# Altium schematic symbol library S7CAS_LIB2023.SchLib: 112 symbols (part 1 of 2)
Pins are listed as number, name and electrical type; pins without a type are passive.

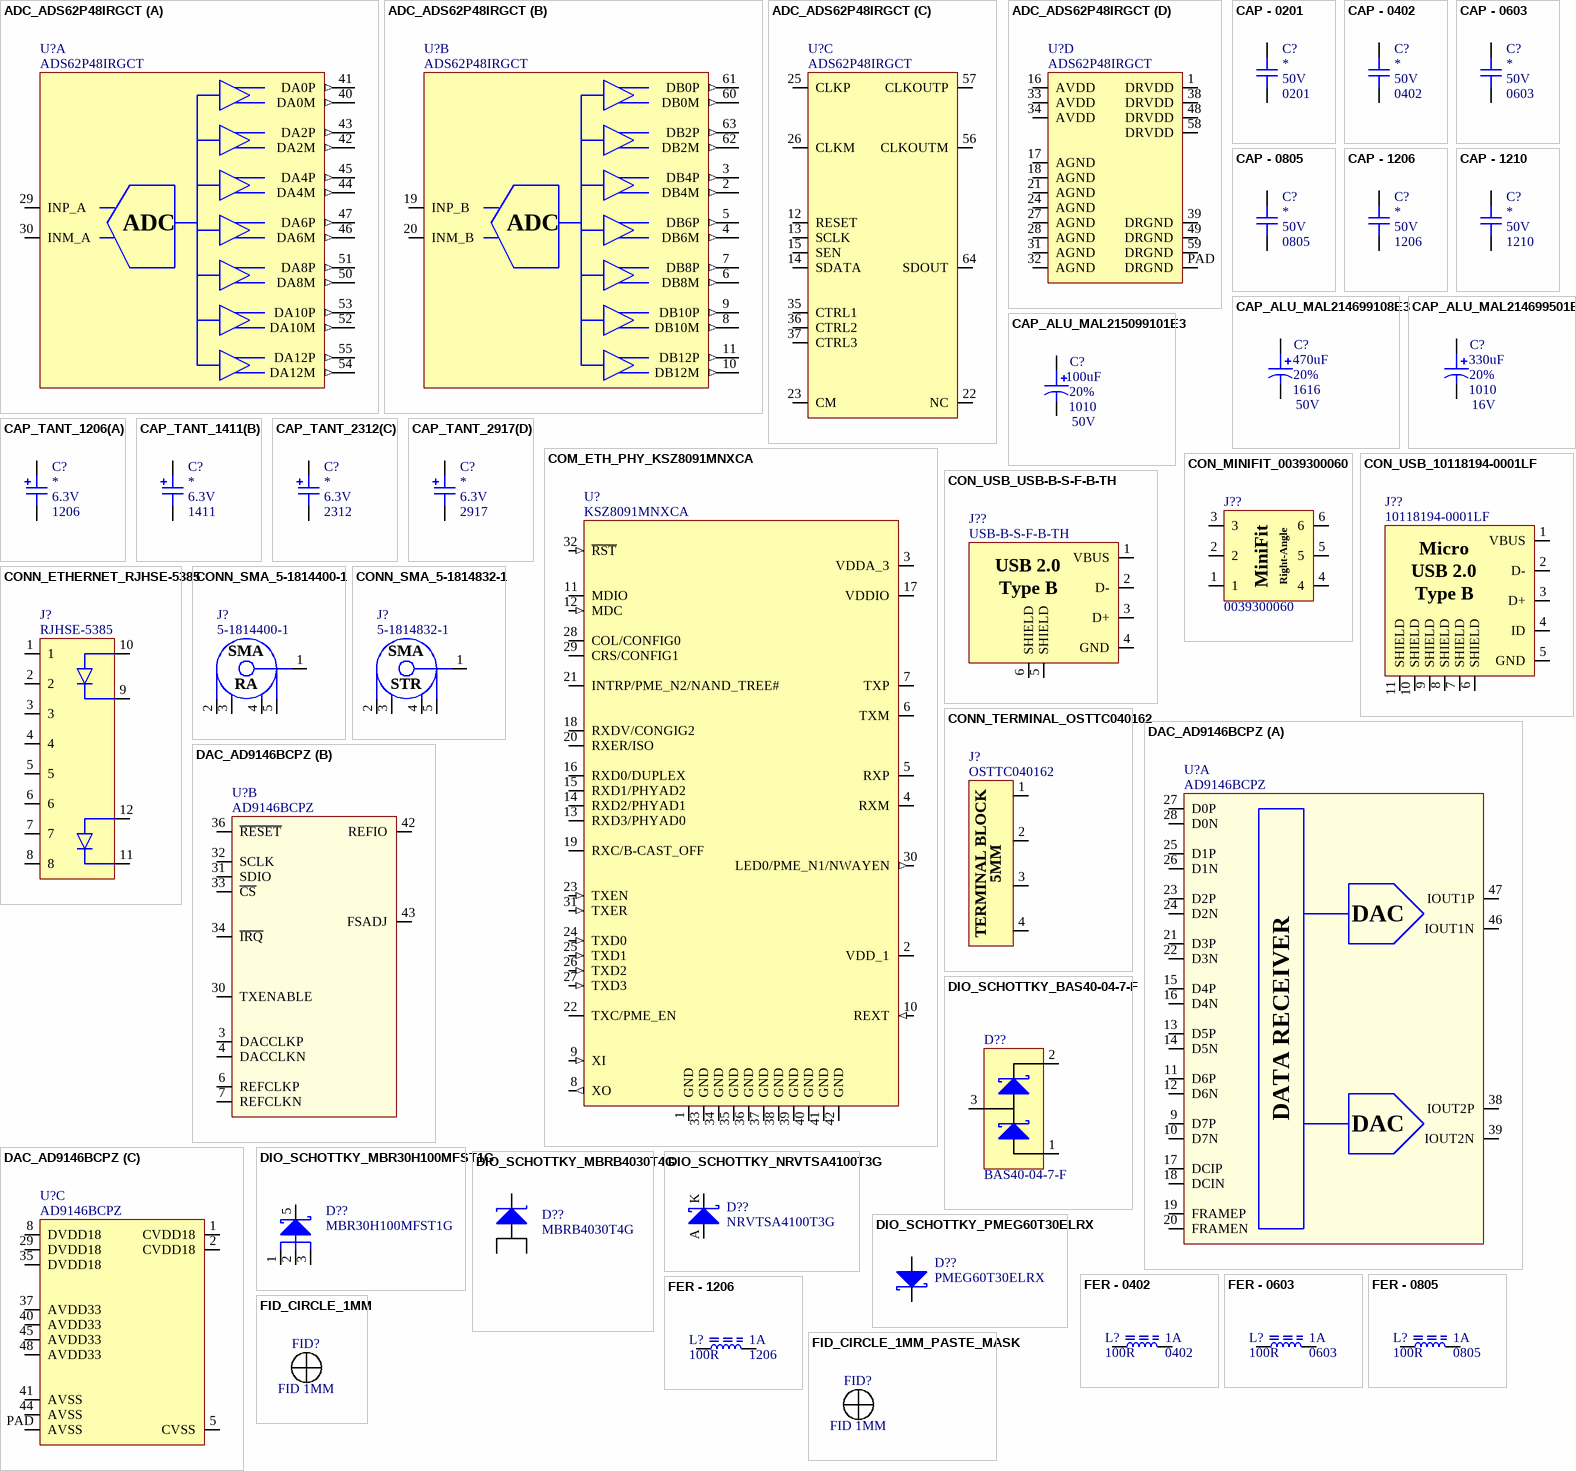
[diagram p0: symbols ADC_ADS62P48IRGCT to FID_CIRCLE_1MM_PASTE_MASK]

## ADC_ADS62P48IRGCT
designator U?, comment ADS62P48IRGCT
ADC - 14 BIT 210MSPS SUAL - VQFN-64; Voltage: 3.15 V ~ 3.6 V / 1.7 V ~ 1.9 V; Mfg: Texas Instruments; Precision: 14 Bit; Current: *; Power: *; Mfg Part Number: ADS62P48IRGCT; HelpURL: http://www.ti.com/lit/ds/symlink/ads62p48.pdf; CreatedBy: Jonathan Bouchard; Temperature: -40°C ~ 85°C; Value: *; Package: VQFN-64; Supplier 1: Digikey; Supplier Part Number 1: 296-24611-1-ND
footprint ADC_ADS62P48IRGCT (QFN, 64-Leads, Body 9,00x9,00mm, Pitch 0,50mm, Thermal Pad 7,40x7,40mm, IPC Medium Density)
part A pins: 29 INP_A, 30 INM_A, 40 DA0M (out), 41 DA0P (out), 42 DA2M (out), 43 DA2P (out), 44 DA4M (out), 45 DA4P (out), 46 DA6M (out), 47 DA6P (out), 50 DA8M (out), 51 DA8P (out), 52 DA10M (out), 53 DA10P (out), 54 DA12M (out), 55 DA12P (out)
part B pins: 2 DB4M (out), 3 DB4P (out), 4 DB6M (out), 5 DB6P (out), 6 DB8M (out), 7 DB8P (out), 8 DB10M (out), 9 DB10P (out), 10 DB12M (out), 11 DB12P (out), 19 INP_B, 20 INM_B, 60 DB0M (out), 61 DB0P (out), 62 DB2M (out), 63 DB2P (out)
part C pins: 12 RESET, 13 SCLK, 14 SDATA, 15 SEN, 22 NC, 23 CM, 25 CLKP, 26 CLKM, 35 CTRL1, 36 CTRL2, 37 CTRL3, 56 CLKOUTM, 57 CLKOUTP, 64 SDOUT
part D pins: 1 DRVDD, 16 AVDD, 17 AGND, 18 AGND, 21 AGND, 24 AGND, 27 AGND, 28 AGND, 31 AGND, 32 AGND, 33 AVDD, 34 AVDD, 38 DRVDD, 39 DRGND, 48 DRVDD, 49 DRGND, 58 DRVDD, 59 DRGND, PAD DRGND
part A text: ADC
part B text: ADC

## CAP - 0201
designator C?  Voltage: 50V  Package: 0201  (hidden comment: CAP - 0201)
Precision: 10%; Current: *; CreatedBy: Jonathan Bouchard; Power: *; Value: *
footprint CAP_0201
pins: 1, 2

## CAP - 0402
designator C?  Voltage: 50V  Package: 0402  (hidden comment: CAP - 0402)
Precision: 10%; Current: *; CreatedBy: Jonathan Bouchard; Power: *; Value: *
footprint CAP_0402
pins: 1, 2

## CAP - 0603
designator C?  Voltage: 50V  Package: 0603  (hidden comment: CAP - 0603)
Precision: 10%; Current: *; CreatedBy: Jonathan Bouchard; Power: *; Value: *
footprint CAP_0603
pins: 1, 2

## CAP - 0805
designator C?  Voltage: 50V  Package: 0805  (hidden comment: CAP - 0805)
Precision: 10%; Current: *; CreatedBy: Jonathan Bouchard; Power: *; Value: *
footprint CAP_0805
pins: 1, 2

## CAP - 1206
designator C?  Voltage: 50V  Package: 1206  (hidden comment: CAP - 1206)
Precision: 10%; Current: *; CreatedBy: Jonathan Bouchard; Power: *; Value: *
footprint CAP_1206
pins: 1, 2

## CAP - 1210
designator C?  Voltage: 50V  Package: 1210  (hidden comment: CAP - 1210)
Precision: 10%; Current: *; CreatedBy: Jonathan Bouchard; Power: *; Value: *
footprint CAP_1210
pins: 1, 2

## CAP_ALU_MAL214699108E3
designator C?, comment value 470uF  Voltage: 50V  Package: 1616  Precision: 20%  (hidden comment: MAL214699108E3)
CAP - ALU 470uF 20% 50V - 1616; Current: 1.3A; Mfg: Vishay Dale; Mfg Part Number: MAL214699108E3; HelpURL: http://www.vishay.com/docs/28403/146cti.pdf; CreatedBy: Jonathan Bouchard; Temperature: -55°C to 125°C; Power: *; Supplier 1: Digikey; Supplier Part Number 1: 4442PHCT-ND
footprint CAP_ALU_1616_vishay
pins: 1, 2

## CAP_ALU_MAL214699501E3
designator C?, comment value 330uF  Voltage: 16V  Package: 1010  Precision: 20%  (hidden comment: MAL214699501E3)
CAP - ALU 330uF 20% 16V - 1010; Current: 750mA; Mfg: Vishay Dale; Mfg Part Number: MAL214699501E3; HelpURL: http://www.vishay.com/docs/28403/146cti.pdf; CreatedBy: Jonathan Bouchard; Temperature: -55°C to 125°C; Power: *; Supplier 1: Digikey; Supplier Part Number 1: 4405PHCT-ND
footprint CAP_ALU_1010_vishay
pins: 1, 2

## CAP_ALU_MAL215099101E3
designator C?, comment value 100uF  Voltage: 50V  Package: 1010  Precision: 20%  (hidden comment: MAL215099101E3)
CAP - ALU 100uF 20% 50V - 1010; Current: 490mA; Mfg: Vishay Dale; Mfg Part Number: MAL215099101E3; HelpURL: http://www.vishay.com/docs/28395/150crz.pdf; CreatedBy: Jonathan Bouchard; Temperature: -55°C to 125°C; Power: *; Supplier 1: Digikey; Supplier Part Number 1: 4399PHDKR-ND
footprint CAP_ALU_1010_vishay
pins: 1, 2

## CAP_TANT_1206(A)
designator C?, comment Voltage: 6.3V  Package: 1206  (hidden comment: CAP - TANTALUM - CASE A)
CAP - TANTALUM - 1206; Precision: 10%; Current: *; CreatedBy: Jonathan Bouchard; Power: *; Value: *
footprint CAP_TAN_1206(A)
pins: 1, 2

## CAP_TANT_1411(B)
designator C?, comment Voltage: 6.3V  Package: 1411  (hidden comment: CAP - TANTALUM - CASE B)
CAP - TANTALUM - 1411; Precision: 10%; Current: *; CreatedBy: Jonathan Bouchard; Power: *; Value: *
footprint CAP_TAN_1411(B)
pins: 1, 2

## CAP_TANT_2312(C)
designator C?, comment Voltage: 6.3V  Package: 2312  (hidden comment: CAP - TANTALUM - CASE C)
CAP - TANTALUM - 2312; Precision: 10%; Current: *; CreatedBy: Jonathan Bouchard; Power: *; Value: *
footprint CAP_TAN_2312(C)
pins: 1, 2

## CAP_TANT_2917(D)
designator C?, comment Voltage: 6.3V  Package: 2917  (hidden comment: CAP - TANTALUM - CASE D)
CAP - TANTALUM - 2917; Precision: 10%; Current: *; CreatedBy: Jonathan Bouchard; Power: *; Value: *
footprint CAP_TAN_2917(D)
pins: 1, 2

## COM_ETH_PHY_KSZ8091MNXCA
designator U?, comment KSZ8091MNXCA
COM - ETHERNET PHY 10/100 - QFN-32; Voltage: 1.8V, 2.5V, 3.3V; Mfg: Micrel; Current: *; Power: *; Mfg Part Number: KSZ8091MNXCA; HelpURL: http://ww1.microchip.com/downloads/en/DeviceDoc/00002275A.pdf; CreatedBy: Jonathan Bouchard; Temperature: 0°C ~ 70°C; Value: *; Precision: *; Package: QFN-32; Supplier 1: Digikey; Supplier Part Number 1: 576-4356-ND
footprint COM_ETH_PHY_KSZ8091MNXCA
pins: 1 GND (power), 2 VDD_1 (power), 3 VDDA_3 (power), 4 RXM (io), 5 RXP (io), 6 TXM (io), 7 TXP (io), 8 XO (out), 9 XI (in), 10 REXT (in), 11 MDIO (io), 12 MDC (in), 13 RXD3/PHYAD0 (io), 14 RXD2/PHYAD1 (io), 15 RXD1/PHYAD2 (io), 16 RXD0/DUPLEX (io), 17 VDDIO (power), 18 RXDV/CONGIG2 (io), 19 RXC/B-CAST_OFF (io), 20 RXER/ISO (io), 21 INTRP/PME_N2/NAND_TREE# (io), 22 TXC/PME_EN (io), 23 TXEN (in), 24 TXD0 (in), 25 TXD1 (in), 26 TXD2 (in), 27 TXD3 (in), 28 COL/CONFIG0 (io), 29 CRS/CONFIG1 (io), 30 LED0/PME_N1/NWAYEN (out), 31 TXER (in), 32 ~{RST} (in), 33 GND (power), 34 GND (power), 35 GND (power), 36 GND (power), 37 GND (power), 38 GND (power), 39 GND (power), 40 GND (power), 41 GND (power), 42 GND (power)

## CON_MINIFIT_0039300060
designator J??, comment 0039300060
CON - Mini-Fit Through Hole, Right Angle 6 position; Manufacturer #1: Molex; Current Rating: 8A; GRAMS Lib Spec: 2.8; Magnetic Material: Unknown; Polarized: Yes; Voltage Rating: 600V; Assembly Type: TH; CreatedBy/Date: Joel Lemay 2018-06-21; HelpURL: https://www.molex.com/pdm_docs/sd/039300060_sd.pdf; Manufacturer #2: *; Package: TH; Part Number #1: 0039300060; Part Number #2: *; Power Max: *; Supplier 1: Digi-Key; Supplier Part Number 1: WM21353-ND; Temperature: - 40°C to + 80°C; Tolerance: *; Value: *; VerifiedBy: Caroline Paulin - 10 sept 2018; Cryo: UNKNOWN
footprint CON_MINIFIT_0039300060
pins: 1, 2, 3, 4, 5, 6
text: MiniFit; Right-Angle

## CON_USB_10118194-0001LF
designator J??, comment 10118194-0001LF
CON - USB MICRO B RECPT SMT R/A - 4PIN; Manufacturer #1: Amphenol FCI; Value: USB - Micro B; Voltage Rating: 100VAC; Current Rating: 1.8A; GRAMS Lib Spec: 2.8; Magnetic Material: YES; Cryo: UNKNOWN; Tolerance: *; Power Max: *; HelpURL: https://cdn.amphenol-icc.com/media/wysiwyg/files/drawing/10118194.pdf; CreatedBy/Date: Arnaud Samson - 09/07/18; VerifiedBy: Jonathan Bouchard 2018-07-12; Temperature: -30°C ~ 80°C; Package: 5-SMD; Manufacturer #2: *; Note: *; Assembly Type: SMD; Part Number #2: *; Part Number #1: 10118194-0001LF; Polarized: YES; Supplier 1: Digi-Key; Supplier Part Number 1: 609-4618-1-ND
footprint CON_USB_10118194-0001LF (CONN USB MICRO B RECPT SMT R/A)
pins: 1 VBUS, 2 D-, 3 D+, 4 ID, 5 GND, 6 SHIELD, 7 SHIELD, 8 SHIELD, 9 SHIELD, 10 SHIELD, 11 SHIELD
text: Micro; USB 2.0; Type B

## CON_USB_USB-B-S-F-B-TH
designator J??, comment USB-B-S-F-B-TH
CON - USB B RECPT TH R/A - 4-TH; Manufacturer #1: Samtec Inc.; Value: USB B; Voltage Rating: 30VAC; GRAMS Lib Spec: 2.8c; Magnetic Material: UNKNOWN; Polarized: YES; Tolerance: *; Current Rating: *; Power Max: *; HelpURL: http://suddendocs.samtec.com/catalog_english/usb_b.pdf; CreatedBy/Date: Jonathan Bouchard 2020-03-24; VerifiedBy: C.Paulin - 22/04/2020; Temperature: -50°C ~ 85°C; Package: 4-TH; Manufacturer #2: *; Note: *; Assembly Type: TH; Part Number #2: *; Part Number #1: USB-B-S-F-B-TH; Supplier 1: Digi-Key; Supplier Part Number 1: SAM10867-ND; Cryo: UNKNOWN
footprint CON_USB_USB-B-S-F-B-TH (Samtec USB B)
pins: 1 VBUS, 2 D-, 3 D+, 4 GND, 5 SHIELD, 6 SHIELD
text: USB 2.0; Type B

## CONN_ETHERNET_RJHSE-5385
designator J?, comment RJHSE-5385
CONN - MOD JACK RJ45 R/A ETHERNET - TH; Mfg: Amphenol; Voltage: *; Current: *; Power: *; Mfg Part Number: RJHSE-5385; HelpURL: https://www.amphenolcanada.com/ProductSearch/drawings/AC/RJHSE538X.pdf; CreatedBy: Jonathan Bouchard; Temperature: -55°C ~ 85°C; Value: *; Precision: *; Package: TH-12; Supplier 1: Digikey; Supplier Part Number 1: RJHSE-5385-ND
footprint CONN_ETHERNET_RJHSE-5385 (Ethernet connector with LEDs)
pins: 1, 2, 3, 4, 5, 6, 7, 8, 9 LED1_K, 10 LED1_A, 11 LED2_K, 12 LED2_A

## CONN_SMA_5-1814400-1
designator J?, comment 5-1814400-1
CONN -  SMA JACK R/A 50 OHM - TH; Mfg: TE Connectivity AMP Connectors; Voltage: *; Current: *; Power: *; Mfg Part Number: 5-1814400-1; HelpURL: http://www.te.com/commerce/DocumentDelivery/DDEController?Action=srchrtrv&DocNm=1814400&DocType=Customer+Drawing&DocLang=English; CreatedBy: Jonathan Bouchard; Temperature: -55°C ~ 85°C; Value: *; Precision: *; Package: TH-5; Supplier 1: Digikey; Supplier Part Number 1: A97593-ND
footprint CONN_SMA_5-1814400-1 (SMA Right Angle Jack, 14.8x6.35x9.6mm)
pins: 1, 2, 3, 4, 5
text: SMA; RA

## CONN_SMA_5-1814832-1
designator J?, comment 5-1814832-1
CONN -  SMA JACK STR 50 OHM - TH; Mfg: TE Connectivity AMP Connectors; Voltage: *; Current: *; Power: *; Mfg Part Number: 5-1814832-1; HelpURL: http://www.te.com/commerce/DocumentDelivery/DDEController?Action=srchrtrv&DocNm=1814832&DocType=Customer+Drawing&DocLang=English; CreatedBy: Jonathan Bouchard; Temperature: -65°C ~ 165°C; Value: *; Precision: *; Package: TH-5; Supplier 1: Digikey; Supplier Part Number 1: A97594-ND
footprint CONN_SMA_5-1814832-1 (SMA Straight Jack, 6.35x6.35x9.5mm)
pins: 1, 2, 3, 4, 5
text: SMA; STR

## CONN_TERMINAL_OSTTC040162
designator J?, comment OSTTC040162
CONN -  TERMINAL BLOCK 4POS 5MM - TH; Mfg: On Shore Technology Inc.; Voltage: *; Current: *; Power: *; Mfg Part Number: OSTTC040162; HelpURL: http://www.on-shore.com/wp-content/uploads/2015/09/osttcxx0162.pdf; CreatedBy: Jonathan Bouchard; Temperature: -30°C ~ 105°C; Value: *; Precision: *; Package: TH-4; Supplier 1: Digikey; Supplier Part Number 1: ED2602-ND
footprint CONN_TERMINAL_OSTTA040161 (4-pins terminal block)
pins: 1, 2, 3, 4
text: TERMINAL BLOCK; 5MM

## DAC_AD9146BCPZ
designator U?, comment AD9146BCPZ
DAC - 16BIT SRL HIGH SPEED - QFN-48; Voltage: 3.13 V ~ 3.47 V / 1.71 V ~ 1.89 V; Mfg: Analog Devices Inc.; Current: *; Power: *; Mfg Part Number: AD9146BCPZ; HelpURL: http://www.analog.com/media/en/technical-documentation/data-sheets/AD9146.PDF; CreatedBy: Jonathan Bouchard; Temperature: -40°C ~ 85°C; Value: *; Precision: 16 Bit; Package: QFN-48; Supplier 1: Digikey; Supplier Part Number 1: AD9146BCPZ-ND
footprint DAC_AD9146BCPZ (QFN, 48-Leads, Body 7x7mm, Pitch 0.5mm, Thermal Pad 5.6x5.6mm, IPC Medium Density)
part A pins: 9 D7P "Data Bit 7 (MSB), Positive.", 10 D7N "Data Bit 7 (MSB), Negative.", 11 D6P "Data Bit 6, Positive.", 12 D6N "Data Bit 6, Negative.", 13 D5P "Data Bit 5, Positive.", 14 D5N "Data Bit 5, Negative.", 15 D4P "Data Bit 4, Positive.", 16 D4N "Data Bit 4, Negative.", 17 DCIP "Data Clock Input, Positive.", 18 DCIN "Data Clock Input, Negative.", 19 FRAMEP "Frame Input, Positive.", 20 FRAMEN "Frame Input, Negative.", 21 D3P "Data Bit 3, Positive.", 22 D3N "Data Bit 3, Negative.", 23 D2P "Data Bit 2, Positive.", 24 D2N "Data Bit 2, Negative.", 25 D1P "Data Bit 1, Positive.", 26 D1N "Data Bit 1, Negative.", 27 D0P "Data Bit 0 (LSB), Positive.", 28 D0N "Data Bit 0 (LSB), Negative.", 38 IOUT2P "Q DAC Positive Current Output.", 39 IOUT2N "Q DAC Negative Current Output.", 46 IOUT1N "I DAC Negative Current Output.", 47 IOUT1P "I DAC Positive Current Output."
part B pins: 3 DACCLKP "DAC Clock Input, Positive.", 4 DACCLKN "DAC Clock Input, Negative.", 6 REFCLKP "PLL Reference Clock Input, Positive. This pin has a secondary function as a synchronization input.", 7 REFCLKN "PLL Reference Clock Input, Negative. This pin has a secondary function as a synchronization input.", 30 TXENABLE "Active High Transmit Path Enable (CMOS). A low level on this pin clamps the DAC outputs to midscale.", 31 SDIO "Serial Port Data Input/Output (CMOS).", 32 SCLK "Serial Port Clock Input (CMOS).", 33 ~{CS} "Serial Port Chip Select, Active Low (CMOS).", 34 ~{IRQ} "Interrupt Request. Open-drain, active low output. Pull this pin high external to the device.", 36 ~{RESET} "Reset, Active Low (CMOS).", 42 REFIO "1.2 V Band Gap Voltage Reference Output. Should be decoupled to AVSS with a 0.1 uF capacitor.", 43 FSADJ "Full-Scale Current Output Adjust. Place a 10 kO resistor from this pin to AVSS."
part C pins: 1 CVDD18 "1.8 V Clock Supply. Supplies clock receivers, clock distribution, and PLL circuitry.", 2 CVDD18 "1.8 V Clock Supply. Supplies clock receivers, clock distribution, and PLL circuitry.", 5 CVSS "Clock Supply Common.", 8 DVDD18 "1.8 V Digital Supply. Supplies power to digital core and digital data ports.", 29 DVDD18 "1.8 V Digital Supply. Supplies power to digital core and digital data ports.", 35 DVDD18 "1.8 V Digital Supply. Supplies power to digital core and digital data ports.", 37 AVDD33 "3.3 V Analog Supply.", 40 AVDD33 "3.3 V Analog Supply.", 41 AVSS "Analog Supply Common.", 44 AVSS "Analog Supply Common.", 45 AVDD33 "3.3 V Analog Supply.", 48 AVDD33 "3.3 V Analog Supply.", PAD AVSS "The exposed pad (EPAD) must be soldered to the ground plane (AVSS). The EPAD provides an electrical,thermal, and mechanical connection to the board."
part A text: DAC; DATA RECEIVER

## DIO_SCHOTTKY_BAS40-04-7-F
designator D??, comment BAS40-04-7-F
DIO - Schottky Array 1 Pair Series Connection - SOT-23-3; Manufacturer #1: Diodes Incorporated; Voltage Rating: 40V dc reverse; Current Rating: 200mA; GRAMS Lib Spec: 2.8; Magnetic Material: Unknown; Polarized: Yes; Value: -; Tolerance: -; Power Max: -; HelpURL: https://www.diodes.com/assets/Datasheets/ds11006.pdf; CreatedBy/Date: Danae D-F 15 août 2019; VerifiedBy: C.Paulin - 16/08/2019; Temperature: -55°C ~ 125°C; Package: SOT-23-3; Manufacturer #2: -; Assembly Type: SMD; Part Number #2: -; Part Number #1: BAS40-04-7-F; Supplier 1: Digi-Key; Supplier Part Number 1: BAS40-04FDITR-ND; Cryo: UNKNOWN
footprint DIO_SCHOTTKY_BAS40-04-7-F
pins: 1 A, 2 K, 3 AK

## DIO_SCHOTTKY_MBR30H100MFST1G
designator D??, comment MBR30H100MFST1G
DIO - SCHOTTKY 100V 30A - 5DFN; Manufacturer #1: ON Semiconductor; GRAMS Lib Spec: 2.8; Magnetic Material: Unknown; Polarized: Yes; Assembly Type: SMD; CreatedBy/Date: Joel Lemay 2019-10-17; Current Rating: 30A; HelpURL: http://www.onsemi.com/pub/Collateral/MBR30H100MFS-D.PDF; Manufacturer #2: *; Package: 5DFN; Part Number #1: MBR30H100MFST1G; Part Number #2: *; Power Max: *; Supplier 1: Digi-Key; Supplier Part Number 1: MBR30H100MFST1GOSCT-ND; Temperature: -55°C ~ 175°C; Tolerance: *; VerifiedBy: C.Paulin - 2019-11-18; Voltage Rating: 100V; Cryo: UNKNOWN
footprint DIO_SCHOTTKY_MBR30H100MFST1G
pins: 1 A, 2 A, 3 A, 4 NC hidden, 5 K

## DIO_SCHOTTKY_MBRB4030T4G
designator D??, comment MBRB4030T4G
DIO - 30V MAX 40 A - TO-263-3; Manufacturer #1: ON Semiconductor; Value: Vf = 550mV @ 40A; Current Rating: 40A; GRAMS Lib Spec: 2.8; Magnetic Material: NO; Polarized: Yes; Cryo: UNKNOWN; Tolerance: *; Voltage Rating: 30V; Power Max: *; HelpURL: http://www.onsemi.com/pub/Collateral/MBRB4030-D.PDF; CreatedBy/Date: Arnaud Samson - 06/07/18; VerifiedBy: Jonathan Bouchard 2018-07-12; Temperature: -65°C ~ 175°C; Package: D2PAK; Manufacturer #2: *; Note: *; Assembly Type: SMD; Part Number #2: *; Part Number #1: MBRB4030T4G; Supplier 1: Digi-Key; Supplier Part Number 1: MBRB4030T4GOSCT-ND
footprint DIO_SCHOTTKY_MBRB4030T4G (TO-263-3, D²Pak (2 Leads + Tab), TO-263AB)
pins: 1 A, 3, 4

## DIO_SCHOTTKY_NRVTSA4100T3G
designator D??, comment NRVTSA4100T3G
DIO -  SCHOTTKY 100V 4A - DO-214AC; Manufacturer #1: ON Semiconductor; Value: Vf = 660mV @ 4A; GRAMS Lib Spec: 2.8; Magnetic Material: UNKNOWN; Polarized: YES; Tolerance: *; Voltage Rating: 100V; Current Rating: 4A; Power Max: *; HelpURL: https://www.onsemi.com/pub/Collateral/NTSA4100-D.PDF; CreatedBy/Date: Jonathan Bouchard 2019-03-22; VerifiedBy: Nicolas V. (2019-05-01); Temperature: -55°C ~ 150°C; Package: DO-214AC; Manufacturer #2: *; Note: *; Assembly Type: SMD; Part Number #2: *; Part Number #1: NRVTSA4100T3G; Supplier 1: Digi-Key; Supplier Part Number 1: NRVTSA4100T3GOSCT-ND; Cryo: UNKNOWN
footprint DIO_SCHOTTKY_NRVTSA4100T3G (Molded Diode, 2-Leads, Body 4,31x2,61mm, IPC Medium Density)
pins: A, K

## DIO_SCHOTTKY_PMEG60T30ELRX
designator D??, comment PMEG60T30ELRX
DIO -  SCHOTTKY 60V 3A - SOD-123W; Manufacturer #1: Nexperia USA Inc.; GRAMS Lib Spec: 2.8c; Magnetic Material: UNKNOWN; Polarized: YES; Value: 620mV @ 3A; Assembly Type: SMD; CreatedBy/Date: Jonathan Bouchard 2020-03-23; Current Rating: 3A; HelpURL: https://assets.nexperia.com/documents/data-sheet/PMEG60T30ELR.pdf; Manufacturer #2: *; Note: *; Package: SOD-123W; Part Number #1: PMEG60T30ELRX; Part Number #2: *; Power Max: *; Supplier 1: Digi-Key; Supplier Part Number 1: 1727-7806-1-ND; Temperature: 175°C (Max); Tolerance: *; VerifiedBy: C.Paulin - 22/04/2020; Voltage Rating: 60V; Cryo: UNKNOWN
footprint DIO_SCHOTTKY_PMEG60T30ELRX
pins: A, K

## FER - 0402
designator L?  value 100R  Current: 1A  Package: 0402  (hidden comment: FER - 0402)
Voltage: *; CreatedBy: Jonathan Bouchard; Power: *; Precision: *
footprint FER_0402
pins: 1, 2

## FER - 0603
designator L?  value 100R  Current: 1A  Package: 0603  (hidden comment: FER - 0603)
Voltage: *; CreatedBy: Jonathan Bouchard; Power: *; Precision: *
footprint FER_0603
pins: 1, 2

## FER - 0805
designator L?  value 100R  Current: 1A  Package: 0805  (hidden comment: FER - 0805)
Voltage: *; CreatedBy: Jonathan Bouchard; Power: *; Precision: *
footprint FER_0805
pins: 1, 2

## FER - 1206
designator L?  value 100R  Current: 1A  Package: 1206  (hidden comment: FER - 1206)
Voltage: *; CreatedBy: Jonathan Bouchard; Power: *; Precision: *
footprint FER_1206
pins: 1, 2

## FID_CIRCLE_1MM
designator FID?, comment FID 1MM
FID - FIDUCIAL 1MM CIRCLE DOUBLE-SIDED - 1MM; GRAMS Lib Spec: 2.8; Magnetic Material: NO; Cryo: UNKNOWN; Value: *; Tolerance: *; Voltage Rating: *; Current Rating: *; Power Max: *; HelpURL: https://www.pcb-3d.com/wordpress/wp-content/uploads/ipc-sm-782a_amendment_1_and_2.pdf; CreatedBy/Date: Jonathan Bouchard 2018-07-23; VerifiedBy: Caroline Paulin - 25 juillet 2018; Temperature: *; Package: 1MM CIRCLE; Manufacturer #1: *; Manufacturer #2: *; Note: *; Assembly Type: NONE; Part Number #2: *; Part Number #1: *; Polarized: *; Supplier 1: *; Supplier Part Number 1: *
footprint FID_CIRCLE_1MM
pins: 1 hidden, 2 hidden

## FID_CIRCLE_1MM_PASTE_MASK
designator FID?, comment FID 1MM
FID - FIDUCIAL 1MM CIRCLE DOUBLE-SIDED - 1MM; GRAMS Lib Spec: 2.8; Magnetic Material: NO; Cryo: UNKNOWN; Value: *; Tolerance: *; Voltage Rating: *; Current Rating: *; Power Max: *; HelpURL: https://www.pcb-3d.com/wordpress/wp-content/uploads/ipc-sm-782a_amendment_1_and_2.pdf; CreatedBy/Date: Jonathan Bouchard 2018-07-23; VerifiedBy: Caroline Paulin - 25 juillet 2018; Temperature: *; Package: 1MM CIRCLE; Manufacturer #1: *; Manufacturer #2: *; Note: *; Assembly Type: NONE; Part Number #2: *; Part Number #1: *; Polarized: *; Supplier 1: *; Supplier Part Number 1: *
footprint FID_CIRCLE_1MM - PASTE_MASK
pins: 1 hidden, 2 hidden

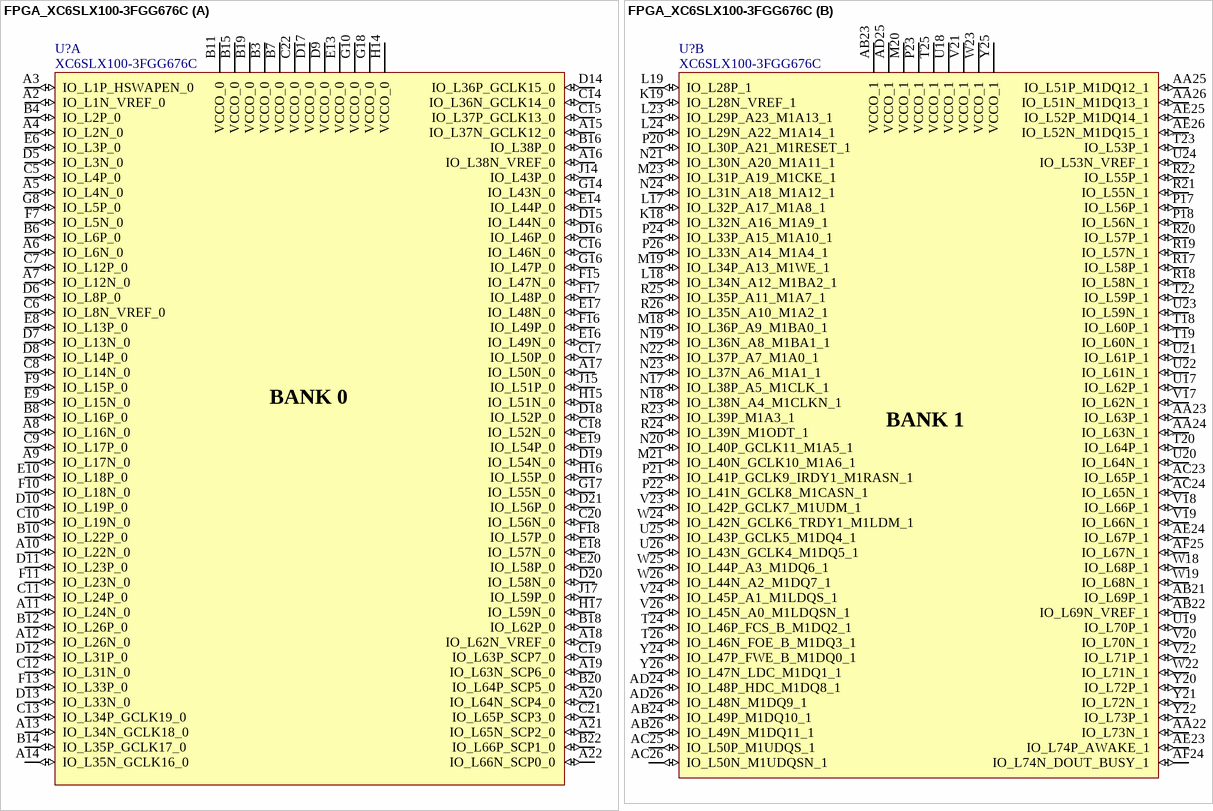
[diagram p1: symbol FPGA_XC6SLX100-3FGG676C]

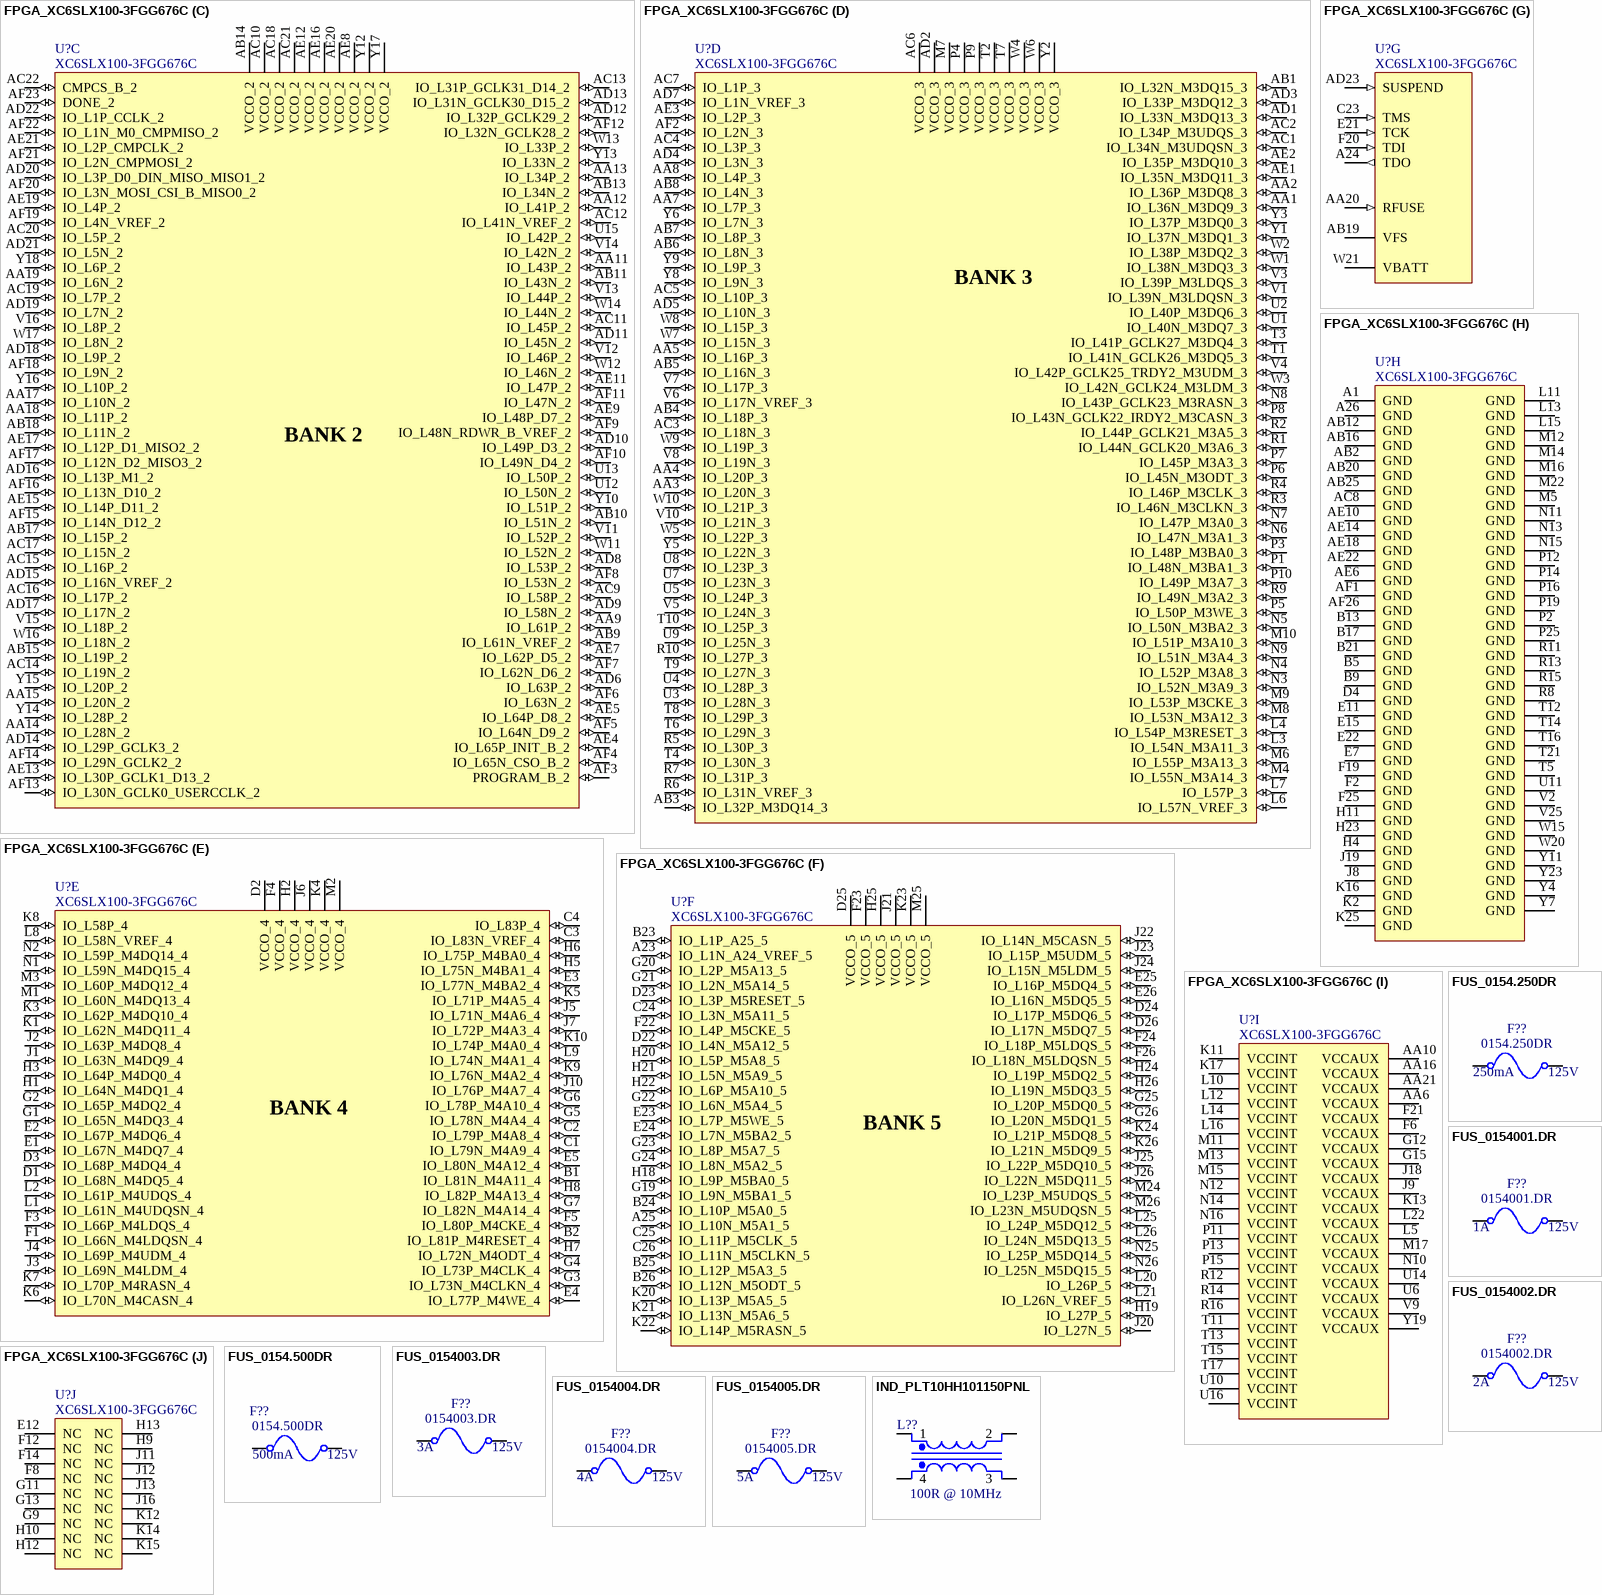
[diagram p2: symbols FPGA_XC6SLX100-3FGG676C to IND_PLT10HH101150PNL]

## FPGA_XC6SLX100-3FGG676C
designator U?, comment XC6SLX100-3FGG676C
FPGA - XILINX SPARTAN 6 480 I/O - BGA-676; Voltage: 1.14 V ~ 1.26 V; Current: *; Power: *; Mfg: Xilinx; Mfg Part Number: XC6SLX100-3FGG676C; HelpURL: https://www.xilinx.com/support/documentation/data_sheets/ds162.pdf; CreatedBy: Jonathan Bouchard; Temperature: 0°C ~ 85°C (TJ); Value: *; Precision: *; Package: BGA-676; Supplier 1: Digikey; Supplier Part Number 1: 122-1760-ND
footprint FPGA_XILINX_FGG676
part A pins: A2 IO_L1N_VREF_0 (io), A3 IO_L1P_HSWAPEN_0 (io), A4 IO_L2N_0 (io), A5 IO_L4N_0 (io), A6 IO_L6N_0 (io), A7 IO_L12N_0 (io), A8 IO_L16N_0 (io), A9 IO_L17N_0 (io), A10 IO_L22N_0 (io), A11 IO_L24N_0 (io), A12 IO_L26N_0 (io), A13 IO_L34N_GCLK18_0 (io), A14 IO_L35N_GCLK16_0 (io), A15 IO_L37N_GCLK12_0 (io), A16 IO_L38N_VREF_0 (io), A17 IO_L50N_0 (io), A18 IO_L62N_VREF_0 (io), A19 IO_L63N_SCP6_0 (io), A20 IO_L64N_SCP4_0 (io), A21 IO_L65N_SCP2_0 (io), A22 IO_L66N_SCP0_0 (io), B3 VCCO_0 (power), B4 IO_L2P_0 (io), B6 IO_L6P_0 (io), B7 VCCO_0 (power), B8 IO_L16P_0 (io), B10 IO_L22P_0 (io), B11 VCCO_0 (power), B12 IO_L26P_0 (io), B14 IO_L35P_GCLK17_0 (io), B15 VCCO_0 (power), B16 IO_L38P_0 (io), B18 IO_L62P_0 (io), B19 VCCO_0 (power), B20 IO_L64P_SCP5_0 (io), B22 IO_L66P_SCP1_0 (io), C5 IO_L4P_0 (io), C6 IO_L8N_VREF_0 (io), C7 IO_L12P_0 (io), C8 IO_L14N_0 (io), C9 IO_L17P_0 (io), C10 IO_L19N_0 (io), C11 IO_L24P_0 (io), C12 IO_L31N_0 (io), C13 IO_L34P_GCLK19_0 (io), C14 IO_L36N_GCLK14_0 (io), C15 IO_L37P_GCLK13_0 (io), C16 IO_L46N_0 (io), C17 IO_L50P_0 (io), C18 IO_L52N_0 (io), C19 IO_L63P_SCP7_0 (io), C20 IO_L56N_0 (io), C21 IO_L65P_SCP3_0 (io), C22 VCCO_0 (power), D5 IO_L3N_0 (io), D6 IO_L8P_0 (io), D7 IO_L13N_0 (io), D8 IO_L14P_0 (io), D9 VCCO_0 (power), D10 IO_L19P_0 (io), D11 IO_L23P_0 (io), D12 IO_L31P_0 (io), D13 IO_L33N_0 (io), D14 IO_L36P_GCLK15_0 (io), D15 IO_L44N_0 (io), D16 IO_L46P_0 (io), D17 VCCO_0 (power), D18 IO_L52P_0 (io), D19 IO_L54N_0 (io), D20 IO_L58N_0 (io), D21 IO_L56P_0 (io), E6 IO_L3P_0 (io), E8 IO_L13P_0 (io), E9 IO_L15N_0 (io), E10 IO_L18P_0 (io), E13 VCCO_0 (power), E14 IO_L44P_0 (io), E16 IO_L49N_0 (io), E17 IO_L48N_0 (io), E18 IO_L57N_0 (io), E19 IO_L54P_0 (io), E20 IO_L58P_0 (io), F7 IO_L5N_0 (io), F9 IO_L15P_0 (io), F10 IO_L18N_0 (io), F11 IO_L23N_0 (io), F13 IO_L33P_0 (io), F15 IO_L47N_0 (io), F16 IO_L49P_0 (io), F17 IO_L48P_0 (io), F18 IO_L57P_0 (io), G8 IO_L5P_0 (io), G10 VCCO_0 (power), G14 IO_L43N_0 (io), G16 IO_L47P_0 (io), G17 IO_L55N_0 (io), G18 VCCO_0 (power), H14 VCCO_0 (power), H15 IO_L51N_0 (io), H16 IO_L55P_0 (io), H17 IO_L59N_0 (io), J14 IO_L43P_0 (io), J15 IO_L51P_0 (io), J17 IO_L59P_0 (io)
part B pins: AA22 IO_L73N_1 (io), AA23 IO_L63P_1 (io), AA24 IO_L63N_1 (io), AA25 IO_L51P_M1DQ12_1 (io), AA26 IO_L51N_M1DQ13_1 (io), AB21 IO_L69P_1 (io), AB22 IO_L69N_VREF_1 (io), AB23 VCCO_1 (power), AB24 IO_L49P_M1DQ10_1 (io), AB26 IO_L49N_M1DQ11_1 (io), AC23 IO_L65P_1 (io), AC24 IO_L65N_1 (io), AC25 IO_L50P_M1UDQS_1 (io), AC26 IO_L50N_M1UDQSN_1 (io), AD24 IO_L48P_HDC_M1DQ8_1 (io), AD25 VCCO_1 (power), AD26 IO_L48N_M1DQ9_1 (io), AE23 IO_L74P_AWAKE_1 (io), AE24 IO_L67P_1 (io), AE25 IO_L52P_M1DQ14_1 (io), AE26 IO_L52N_M1DQ15_1 (io), AF24 IO_L74N_DOUT_BUSY_1 (io), AF25 IO_L67N_1 (io), K18 IO_L32N_A16_M1A9_1 (io), K19 IO_L28N_VREF_1 (io), L17 IO_L32P_A17_M1A8_1 (io), L18 IO_L34N_A12_M1BA2_1 (io), L19 IO_L28P_1 (io), L23 IO_L29P_A23_M1A13_1 (io), L24 IO_L29N_A22_M1A14_1 (io), M18 IO_L36P_A9_M1BA0_1 (io), M19 IO_L34P_A13_M1WE_1 (io), M20 VCCO_1 (power), M21 IO_L40N_GCLK10_M1A6_1 (io), M23 IO_L31P_A19_M1CKE_1 (io), N17 IO_L38P_A5_M1CLK_1 (io), N18 IO_L38N_A4_M1CLKN_1 (io), N19 IO_L36N_A8_M1BA1_1 (io), N20 IO_L40P_GCLK11_M1A5_1 (io), N21 IO_L30N_A20_M1A11_1 (io), N22 IO_L37P_A7_M1A0_1 (io), N23 IO_L37N_A6_M1A1_1 (io), N24 IO_L31N_A18_M1A12_1 (io), P17 IO_L56P_1 (io), P18 IO_L56N_1 (io), P20 IO_L30P_A21_M1RESET_1 (io), P21 IO_L41P_GCLK9_IRDY1_M1RASN_1 (io), P22 IO_L41N_GCLK8_M1CASN_1 (io), P23 VCCO_1 (power), P24 IO_L33P_A15_M1A10_1 (io), P26 IO_L33N_A14_M1A4_1 (io), R17 IO_L58P_1 (io), R18 IO_L58N_1 (io), R19 IO_L57N_1 (io), R20 IO_L57P_1 (io), R21 IO_L55N_1 (io), R22 IO_L55P_1 (io), R23 IO_L39P_M1A3_1 (io), R24 IO_L39N_M1ODT_1 (io), R25 IO_L35P_A11_M1A7_1 (io), R26 IO_L35N_A10_M1A2_1 (io), T18 IO_L60P_1 (io), T19 IO_L60N_1 (io), T20 IO_L64P_1 (io), T22 IO_L59P_1 (io), T23 IO_L53P_1 (io), T24 IO_L46P_FCS_B_M1DQ2_1 (io), T25 VCCO_1 (power), T26 IO_L46N_FOE_B_M1DQ3_1 (io), U17 IO_L62P_1 (io), U18 VCCO_1 (power), U19 IO_L70P_1 (io), U20 IO_L64N_1 (io), U21 IO_L61P_1 (io), U22 IO_L61N_1 (io), U23 IO_L59N_1 (io), U24 IO_L53N_VREF_1 (io), U25 IO_L43P_GCLK5_M1DQ4_1 (io), U26 IO_L43N_GCLK4_M1DQ5_1 (io), V17 IO_L62N_1 (io), V18 IO_L66P_1 (io), V19 IO_L66N_1 (io), V20 IO_L70N_1 (io), V21 VCCO_1 (power), V22 IO_L71P_1 (io), V23 IO_L42P_GCLK7_M1UDM_1 (io), V24 IO_L45P_A1_M1LDQS_1 (io), V26 IO_L45N_A0_M1LDQSN_1 (io), W18 IO_L68P_1 (io), W19 IO_L68N_1 (io), W22 IO_L71N_1 (io), W23 VCCO_1 (power), W24 IO_L42N_GCLK6_TRDY1_M1LDM_1 (io), W25 IO_L44P_A3_M1DQ6_1 (io), W26 IO_L44N_A2_M1DQ7_1 (io), Y20 IO_L72P_1 (io), Y21 IO_L72N_1 (io), Y22 IO_L73P_1 (io), Y24 IO_L47P_FWE_B_M1DQ0_1 (io), Y25 VCCO_1 (power), Y26 IO_L47N_LDC_M1DQ1_1 (io)
part C pins: AA9 IO_L61P_2 (io), AA11 IO_L43P_2 (io), AA12 IO_L41P_2 (io), AA13 IO_L34P_2 (io), AA14 IO_L28N_2 (io), AA15 IO_L20N_2 (io), AA17 IO_L10N_2 (io), AA18 IO_L11P_2 (io), AA19 IO_L6N_2 (io), AB9 IO_L61N_VREF_2 (io), AB10 IO_L51N_2 (io), AB11 IO_L43N_2 (io), AB13 IO_L34N_2 (io), AB14 VCCO_2 (power), AB15 IO_L19P_2 (io), AB17 IO_L15P_2 (io), AB18 IO_L11N_2 (io), AC9 IO_L58P_2 (io), AC10 VCCO_2 (power), AC11 IO_L45P_2 (io), AC12 IO_L41N_VREF_2 (io), AC13 IO_L31P_GCLK31_D14_2 (io), AC14 IO_L19N_2 (io), AC15 IO_L16P_2 (io), AC16 IO_L17P_2 (io), AC17 IO_L15N_2 (io), AC18 VCCO_2 (power), AC19 IO_L7P_2 (io), AC20 IO_L5P_2 (io), AC21 VCCO_2 (power), AC22 CMPCS_B_2 (io), AD6 IO_L63P_2 (io), AD8 IO_L53P_2 (io), AD9 IO_L58N_2 (io), AD10 IO_L49P_D3_2 (io), AD11 IO_L45N_2 (io), AD12 IO_L32P_GCLK29_2 (io), AD13 IO_L31N_GCLK30_D15_2 (io), AD14 IO_L29P_GCLK3_2 (io), AD15 IO_L16N_VREF_2 (io), AD16 IO_L13P_M1_2 (io), AD17 IO_L17N_2 (io), AD18 IO_L9P_2 (io), AD19 IO_L7N_2 (io), AD20 IO_L3P_D0_DIN_MISO_MISO1_2 (io), AD21 IO_L5N_2 (io), AD22 IO_L1P_CCLK_2 (io), AE4 IO_L65P_INIT_B_2 (io), AE5 IO_L64P_D8_2 (io), AE7 IO_L62P_D5_2 (io), AE8 VCCO_2 (power), AE9 IO_L48P_D7_2 (io), AE11 IO_L47P_2 (io), AE12 VCCO_2 (power), AE13 IO_L30P_GCLK1_D13_2 (io), AE15 IO_L14P_D11_2 (io), AE16 VCCO_2 (power), AE17 IO_L12P_D1_MISO2_2 (io), AE19 IO_L4P_2 (io), AE20 VCCO_2 (power), AE21 IO_L2P_CMPCLK_2 (io), AF3 PROGRAM_B_2 (io), AF4 IO_L65N_CSO_B_2 (io), AF5 IO_L64N_D9_2 (io), AF6 IO_L63N_2 (io), AF7 IO_L62N_D6_2 (io), AF8 IO_L53N_2 (io), AF9 IO_L48N_RDWR_B_VREF_2 (io), AF10 IO_L49N_D4_2 (io), AF11 IO_L47N_2 (io), AF12 IO_L32N_GCLK28_2 (io), AF13 IO_L30N_GCLK0_USERCCLK_2 (io), AF14 IO_L29N_GCLK2_2 (io), AF15 IO_L14N_D12_2 (io), AF16 IO_L13N_D10_2 (io), AF17 IO_L12N_D2_MISO3_2 (io), AF18 IO_L9N_2 (io), AF19 IO_L4N_VREF_2 (io), AF20 IO_L3N_MOSI_CSI_B_MISO0_2 (io), AF21 IO_L2N_CMPMOSI_2 (io), AF22 IO_L1N_M0_CMPMISO_2 (io), AF23 DONE_2 (io), U12 IO_L50N_2 (io), U13 IO_L50P_2 (io), U15 IO_L42P_2 (io), V11 IO_L52P_2 (io), V12 IO_L46P_2 (io), V13 IO_L44P_2 (io), V14 IO_L42N_2 (io), V15 IO_L18P_2 (io), V16 IO_L8P_2 (io), W11 IO_L52N_2 (io), W12 IO_L46N_2 (io), W13 IO_L33P_2 (io), W14 IO_L44N_2 (io), W16 IO_L18N_2 (io), W17 IO_L8N_2 (io), Y10 IO_L51P_2 (io), Y12 VCCO_2 (power), Y13 IO_L33N_2 (io), Y14 IO_L28P_2 (io), Y15 IO_L20P_2 (io), Y16 IO_L10P_2 (io), Y17 VCCO_2 (power), Y18 IO_L6P_2 (io)
part D pins: AA1 IO_L36N_M3DQ9_3 (io), AA2 IO_L36P_M3DQ8_3 (io), AA3 IO_L20N_3 (io), AA4 IO_L20P_3 (io), AA5 IO_L16P_3 (io), AA7 IO_L7P_3 (io), AA8 IO_L4P_3 (io), AB1 IO_L32N_M3DQ15_3 (io), AB3 IO_L32P_M3DQ14_3 (io), AB4 IO_L18P_3 (io), AB5 IO_L16N_3 (io), AB6 IO_L8N_3 (io), AB7 IO_L8P_3 (io), AB8 IO_L4N_3 (io), AC1 IO_L34N_M3UDQSN_3 (io), AC2 IO_L34P_M3UDQS_3 (io), AC3 IO_L18N_3 (io), AC4 IO_L3P_3 (io), AC5 IO_L10P_3 (io), AC6 VCCO_3 (power), AC7 IO_L1P_3 (io), AD1 IO_L33N_M3DQ13_3 (io), AD2 VCCO_3 (power), AD3 IO_L33P_M3DQ12_3 (io), AD4 IO_L3N_3 (io), AD5 IO_L10N_3 (io), AD7 IO_L1N_VREF_3 (io), AE1 IO_L35N_M3DQ11_3 (io), AE2 IO_L35P_M3DQ10_3 (io), AE3 IO_L2P_3 (io), AF2 IO_L2N_3 (io), L3 IO_L54N_M3A11_3 (io), L4 IO_L54P_M3RESET_3 (io), L6 IO_L57N_VREF_3 (io), L7 IO_L57P_3 (io), M4 IO_L55N_M3A14_3 (io), M6 IO_L55P_M3A13_3 (io), M7 VCCO_3 (power), M8 IO_L53N_M3A12_3 (io), M9 IO_L53P_M3CKE_3 (io), M10 IO_L51P_M3A10_3 (io), N3 IO_L52N_M3A9_3 (io), N4 IO_L52P_M3A8_3 (io), N5 IO_L50N_M3BA2_3 (io), N6 IO_L47N_M3A1_3 (io), N7 IO_L47P_M3A0_3 (io), N8 IO_L43P_GCLK23_M3RASN_3 (io), N9 IO_L51N_M3A4_3 (io), P1 IO_L48N_M3BA1_3 (io), P3 IO_L48P_M3BA0_3 (io), P4 VCCO_3 (power), P5 IO_L50P_M3WE_3 (io), P6 IO_L45N_M3ODT_3 (io), P7 IO_L45P_M3A3_3 (io), P8 IO_L43N_GCLK22_IRDY2_M3CASN_3 (io), P9 VCCO_3 (power), P10 IO_L49P_M3A7_3 (io), R1 IO_L44N_GCLK20_M3A6_3 (io), R2 IO_L44P_GCLK21_M3A5_3 (io), R3 IO_L46N_M3CLKN_3 (io), R4 IO_L46P_M3CLK_3 (io), R5 IO_L30P_3 (io), R6 IO_L31N_VREF_3 (io), R7 IO_L31P_3 (io), R9 IO_L49N_M3A2_3 (io), R10 IO_L27P_3 (io), T1 IO_L41N_GCLK26_M3DQ5_3 (io), T2 VCCO_3 (power), T3 IO_L41P_GCLK27_M3DQ4_3 (io), T4 IO_L30N_3 (io), T6 IO_L29N_3 (io), T7 VCCO_3 (power), T8 IO_L29P_3 (io), T9 IO_L27N_3 (io), T10 IO_L25P_3 (io), U1 IO_L40N_M3DQ7_3 (io), U2 IO_L40P_M3DQ6_3 (io), U3 IO_L28N_3 (io), U4 IO_L28P_3 (io), U5 IO_L24P_3 (io), U7 IO_L23N_3 (io), U8 IO_L23P_3 (io), U9 IO_L25N_3 (io), V1 IO_L39N_M3LDQSN_3 (io), V3 IO_L39P_M3LDQS_3 (io), V4 IO_L42P_GCLK25_TRDY2_M3UDM_3 (io), V5 IO_L24N_3 (io), V6 IO_L17N_VREF_3 (io), V7 IO_L17P_3 (io), V8 IO_L19N_3 (io), V10 IO_L21N_3 (io), W1 IO_L38N_M3DQ3_3 (io), W2 IO_L38P_M3DQ2_3 (io), W3 IO_L42N_GCLK24_M3LDM_3 (io), W4 VCCO_3 (power), W5 IO_L22P_3 (io), W6 VCCO_3 (power), W7 IO_L15N_3 (io), W8 IO_L15P_3 (io), W9 IO_L19P_3 (io), W10 IO_L21P_3 (io), Y1 IO_L37N_M3DQ1_3 (io), Y2 VCCO_3 (power), Y3 IO_L37P_M3DQ0_3 (io), Y5 IO_L22N_3 (io), Y6 IO_L7N_3 (io), Y8 IO_L9N_3 (io), Y9 IO_L9P_3 (io)
part E pins: B1 IO_L81N_M4A11_4 (io), B2 IO_L81P_M4RESET_4 (io), C1 IO_L79N_M4A9_4 (io), C2 IO_L79P_M4A8_4 (io), C3 IO_L83N_VREF_4 (io), C4 IO_L83P_4 (io), D1 IO_L68N_M4DQ5_4 (io), D2 VCCO_4 (power), D3 IO_L68P_M4DQ4_4 (io), E1 IO_L67N_M4DQ7_4 (io), E2 IO_L67P_M4DQ6_4 (io), E3 IO_L77N_M4BA2_4 (io), E4 IO_L77P_M4WE_4 (io), E5 IO_L80N_M4A12_4 (io), F1 IO_L66N_M4LDQSN_4 (io), F3 IO_L66P_M4LDQS_4 (io), F4 VCCO_4 (power), F5 IO_L80P_M4CKE_4 (io), G1 IO_L65N_M4DQ3_4 (io), G2 IO_L65P_M4DQ2_4 (io), G3 IO_L73N_M4CLKN_4 (io), G4 IO_L73P_M4CLK_4 (io), G5 IO_L78N_M4A4_4 (io), G6 IO_L78P_M4A10_4 (io), G7 IO_L82N_M4A14_4 (io), H1 IO_L64N_M4DQ1_4 (io), H2 VCCO_4 (power), H3 IO_L64P_M4DQ0_4 (io), H5 IO_L75N_M4BA1_4 (io), H6 IO_L75P_M4BA0_4 (io), H7 IO_L72N_M4ODT_4 (io), H8 IO_L82P_M4A13_4 (io), J1 IO_L63N_M4DQ9_4 (io), J2 IO_L63P_M4DQ8_4 (io), J3 IO_L69N_M4LDM_4 (io), J4 IO_L69P_M4UDM_4 (io), J5 IO_L71N_M4A6_4 (io), J6 VCCO_4 (power), J7 IO_L72P_M4A3_4 (io), J10 IO_L76P_M4A7_4 (io), K1 IO_L62N_M4DQ11_4 (io), K3 IO_L62P_M4DQ10_4 (io), K4 VCCO_4 (power), K5 IO_L71P_M4A5_4 (io), K6 IO_L70N_M4CASN_4 (io), K7 IO_L70P_M4RASN_4 (io), K8 IO_L58P_4 (io), K9 IO_L76N_M4A2_4 (io), K10 IO_L74P_M4A0_4 (io), L1 IO_L61N_M4UDQSN_4 (io), L2 IO_L61P_M4UDQS_4 (io), L8 IO_L58N_VREF_4 (io), L9 IO_L74N_M4A1_4 (io), M1 IO_L60N_M4DQ13_4 (io), M2 VCCO_4 (power), M3 IO_L60P_M4DQ12_4 (io), N1 IO_L59N_M4DQ15_4 (io), N2 IO_L59P_M4DQ14_4 (io)
part F pins: A23 IO_L1N_A24_VREF_5 (io), A25 IO_L10N_M5A1_5 (io), B23 IO_L1P_A25_5 (io), B24 IO_L10P_M5A0_5 (io), B25 IO_L12P_M5A3_5 (io), B26 IO_L12N_M5ODT_5 (io), C24 IO_L3N_M5A11_5 (io), C25 IO_L11P_M5CLK_5 (io), C26 IO_L11N_M5CLKN_5 (io), D22 IO_L4N_M5A12_5 (io), D23 IO_L3P_M5RESET_5 (io), D24 IO_L17P_M5DQ6_5 (io), D25 VCCO_5 (power), D26 IO_L17N_M5DQ7_5 (io), E23 IO_L7P_M5WE_5 (io), E24 IO_L7N_M5BA2_5 (io), E25 IO_L16P_M5DQ4_5 (io), E26 IO_L16N_M5DQ5_5 (io), F22 IO_L4P_M5CKE_5 (io), F23 VCCO_5 (power), F24 IO_L18P_M5LDQS_5 (io), F26 IO_L18N_M5LDQSN_5 (io), G19 IO_L9N_M5BA1_5 (io), G20 IO_L2P_M5A13_5 (io), G21 IO_L2N_M5A14_5 (io), G22 IO_L6N_M5A4_5 (io), G23 IO_L8P_M5A7_5 (io), G24 IO_L8N_M5A2_5 (io), G25 IO_L20P_M5DQ0_5 (io), G26 IO_L20N_M5DQ1_5 (io), H18 IO_L9P_M5BA0_5 (io), H19 IO_L27P_5 (io), H20 IO_L5P_M5A8_5 (io), H21 IO_L5N_M5A9_5 (io), H22 IO_L6P_M5A10_5 (io), H24 IO_L19P_M5DQ2_5 (io), H25 VCCO_5 (power), H26 IO_L19N_M5DQ3_5 (io), J20 IO_L27N_5 (io), J21 VCCO_5 (power), J22 IO_L14N_M5CASN_5 (io), J23 IO_L15P_M5UDM_5 (io), J24 IO_L15N_M5LDM_5 (io), J25 IO_L22P_M5DQ10_5 (io), J26 IO_L22N_M5DQ11_5 (io), K20 IO_L13P_M5A5_5 (io), K21 IO_L13N_M5A6_5 (io), K22 IO_L14P_M5RASN_5 (io), K23 VCCO_5 (power), K24 IO_L21P_M5DQ8_5 (io), K26 IO_L21N_M5DQ9_5 (io), L20 IO_L26P_5 (io), L21 IO_L26N_VREF_5 (io), L25 IO_L24P_M5DQ12_5 (io), L26 IO_L24N_M5DQ13_5 (io), M24 IO_L23P_M5UDQS_5 (io), M25 VCCO_5 (power), M26 IO_L23N_M5UDQSN_5 (io), N25 IO_L25P_M5DQ14_5 (io), N26 IO_L25N_M5DQ15_5 (io)
part G pins: A24 TDO (out), AA20 RFUSE (in), AB19 VFS (power), AD23 SUSPEND (in), C23 TMS (in), E21 TCK (in), F20 TDI (in), W21 VBATT (power)
part H pins: A1 GND (power), A26 GND (power), AB2 GND (power), AB12 GND (power), AB16 GND (power), AB20 GND (power), AB25 GND (power), AC8 GND (power), AE6 GND (power), AE10 GND (power), AE14 GND (power), AE18 GND (power), AE22 GND (power), AF1 GND (power), AF26 GND (power), B5 GND (power), B9 GND (power), B13 GND (power), B17 GND (power), B21 GND (power), D4 GND (power), E7 GND (power), E11 GND (power), E15 GND (power), E22 GND (power), F2 GND (power), F19 GND (power), F25 GND (power), H4 GND (power), H11 GND (power), H23 GND (power), J8 GND (power), J19 GND (power), K2 GND (power), K16 GND (power), K25 GND (power), L11 GND (power), L13 GND (power), L15 GND (power), M5 GND (power), M12 GND (power), M14 GND (power), M16 GND (power), M22 GND (power), N11 GND (power), N13 GND (power), N15 GND (power), P2 GND (power), P12 GND (power), P14 GND (power), P16 GND (power), P19 GND (power), P25 GND (power), R8 GND (power), R11 GND (power), R13 GND (power), R15 GND (power), T5 GND (power), T12 GND (power), T14 GND (power), T16 GND (power), T21 GND (power), U11 GND (power), V2 GND (power), V25 GND (power), W15 GND (power), W20 GND (power), Y4 GND (power), Y7 GND (power), Y11 GND (power), Y23 GND (power)
part I pins: AA6 VCCAUX (power), AA10 VCCAUX (power), AA16 VCCAUX (power), AA21 VCCAUX (power), F6 VCCAUX (power), F21 VCCAUX (power), G12 VCCAUX (power), G15 VCCAUX (power), J9 VCCAUX (power), J18 VCCAUX (power), K11 VCCINT (power), K13 VCCAUX (power), K17 VCCINT (power), L5 VCCAUX (power), L10 VCCINT (power), L12 VCCINT (power), L14 VCCINT (power), L16 VCCINT (power), L22 VCCAUX (power), M11 VCCINT (power), M13 VCCINT (power), M15 VCCINT (power), M17 VCCAUX (power), N10 VCCAUX (power), N12 VCCINT (power), N14 VCCINT (power), N16 VCCINT (power), P11 VCCINT (power), P13 VCCINT (power), P15 VCCINT (power), R12 VCCINT (power), R14 VCCINT (power), R16 VCCINT (power), T11 VCCINT (power), T13 VCCINT (power), T15 VCCINT (power), T17 VCCINT (power), U6 VCCAUX (power), U10 VCCINT (power), U14 VCCAUX (power), U16 VCCINT (power), V9 VCCAUX (power), Y19 VCCAUX (power)
part J pins: E12 NC, F8 NC, F12 NC, F14 NC, G9 NC, G11 NC, G13 NC, H9 NC, H10 NC, H12 NC, H13 NC, J11 NC, J12 NC, J13 NC, J16 NC, K12 NC, K14 NC, K15 NC
part A text: BANK 0
part B text: BANK 1
part C text: BANK 2
part D text: BANK 3
part E text: BANK 4
part F text: BANK 5

## FUS_0154.250DR
designator F??, comment 0154.250DR  Voltage Rating: 125V  Current Rating: 250mA
FUS - 250mA 125 VAC/VDC - 2-SMD; Manufacturer #1: Littelfuse Inc.; Part Number #1: 0154002.DR; Value: 250MA 125VAC/VDC FAST; GRAMS Lib Spec: 2.8; Magnetic Material: UNKNOWN; Polarized: NO; Tolerance: *; Power Max: *; HelpURL: http://www.littelfuse.com/~/media/electronics/datasheets/fuses/littelfuse_fuse_154_154t_154l_154tl_datasheet.pdf.pdf; CreatedBy/Date: L-P Gauthier / 2018-06-05; VerifiedBy: Caroline Paulin - 28 sept 2018; Temperature: -55°C ~ 125°C; Package: 2-SMD; Manufacturer #2: *; Assembly Type: SMD; Part Number #2: *; Supplier 1: Digi-Key; Supplier Part Number 1: F1219CT-ND; Cryo: UNKNOWN
footprint FUS_0154XXX.DR (FUSE BRD MNT 2SMD)
pins: 1, 2

## FUS_0154.500DR
designator F??, comment 0154.500DR  Voltage Rating: 125V  Current Rating: 500mA
FUS - 500mA 125 VAC/VDC - 2-SMD; Manufacturer #1: Littelfuse Inc.; Value: 500mA 125VAC/VDC Fast; GRAMS Lib Spec: 2.8; Magnetic Material: UNKNOWN; Polarized: No; Tolerance: *; Power Max: -; HelpURL: http://www.littelfuse.com/~/media/electronics/datasheets/fuses/littelfuse_fuse_154_154t_154l_154tl_datasheet.pdf.pdf; CreatedBy/Date: Raphael Bouchard / 2019-08-09; VerifiedBy: c.paulin - 14/08/2019; Temperature: -55°C ~ 125°C; Package: 2-SMD; Manufacturer #2: -; Note: -; Assembly Type: SMD; Part Number #2: -; Part Number #1: 0154.500DR; Supplier 1: Digi-Key; Supplier Part Number 1: F1220CT-ND; Cryo: UNKNOWN
footprint FUS_0154XXX.DR (FUSE BRD MNT 2SMD)
pins: 1, 2

## FUS_0154001.DR
designator F??, comment 0154001.DR  Voltage Rating: 125V  Current Rating: 1A
FUS - 1 A 125 VAC/VDC - 2-SMD; Manufacturer #1: Littelfuse Inc.; Value: 1A 125V AC/DC FAST; GRAMS Lib Spec: 2.8; Magnetic Material: UNKNOWN; Polarized: NO; Tolerance: *; Power Max: *; HelpURL: http://www.littelfuse.com/~/media/electronics/datasheets/fuses/littelfuse_fuse_154_154t_154l_154tl_datasheet.pdf.pdf; CreatedBy/Date: Danae D-F 8 aout 2019; VerifiedBy: C.Paulin - 16 août 2019; Temperature: -55°C ~ 125°C; Package: 2-SMD; Manufacturer #2: *; Note: *; Assembly Type: SMD; Part Number #2: *; Part Number #1: 0154001.DR; Supplier 1: Digi-Key; Supplier Part Number 1: F1222CT-ND; Cryo: UNKNOWN
footprint FUS_0154XXX.DR (FUSE BRD MNT 2SMD)
pins: 1, 2

## FUS_0154002.DR
designator F??, comment 0154002.DR  Voltage Rating: 125V  Current Rating: 2A
FUS - 2 A 125 VAC/VDC - 2-SMD; Manufacturer #1: Littelfuse Inc.; Value: 2A 125V AC/DC FAST; GRAMS Lib Spec: 2.8; Magnetic Material: UNKNOWN; Polarized: NO; Tolerance: *; Power Max: *; HelpURL: http://www.littelfuse.com/~/media/electronics/datasheets/fuses/littelfuse_fuse_154_154t_154l_154tl_datasheet.pdf.pdf; CreatedBy/Date: Jonathan Bouchard 2018-07-17; VerifiedBy: Arnaud Samson 23-07-18; Temperature: -55°C ~ 125°C; Package: 2-SMD; Manufacturer #2: *; Note: *; Assembly Type: SMD; Part Number #2: *; Part Number #1: 0154002.DR; Supplier 1: Digi-Key; Supplier Part Number 1: F1224CT-ND; Cryo: UNKNOWN
footprint FUS_0154XXX.DR (FUSE BRD MNT 2SMD)
pins: 1, 2

## FUS_0154003.DR
designator F??, comment 0154003.DR  Voltage Rating: 125V  Current Rating: 3A
FUS - 3 A 125 VAC/VDC - 2-SMD; Manufacturer #1: Littelfuse Inc.; Value: 3A 125V AC/DC FAST; GRAMS Lib Spec: 2.8; Magnetic Material: UNKNOWN; Polarized: NO; Tolerance: *; Power Max: *; HelpURL: http://www.littelfuse.com/~/media/electronics/datasheets/fuses/littelfuse_fuse_154_154t_154l_154tl_datasheet.pdf.pdf; CreatedBy/Date: Joël Lemay 2019-10-24; VerifiedBy: CP - 2019-12-3; Temperature: -55°C ~ 125°C; Package: 2-SMD; Manufacturer #2: *; Note: *; Assembly Type: SMD; Part Number #2: *; Part Number #1: 0154003.DR; Supplier 1: Digi-Key; Supplier Part Number 1: F1226CT-ND; Cryo: UNKNOWN
footprint FUS_0154XXX.DR (FUSE BRD MNT 2SMD)
pins: 1, 2

## FUS_0154004.DR
designator F??, comment 0154004.DR  Voltage Rating: 125V  Current Rating: 4A
FUS - 4A 125 VAC/VDC - 2-SMD; Manufacturer #1: Littelfuse Inc.; Value: 4A 125V AC/DC FAST; GRAMS Lib Spec: 2.8; Magnetic Material: UNKNOWN; Polarized: NO; Tolerance: *; Power Max: *; HelpURL: http://www.littelfuse.com/~/media/electronics/datasheets/fuses/littelfuse_fuse_154_154t_154l_154tl_datasheet.pdf.pdf; CreatedBy/Date: Caroline Paulin - 3/12/2019; VerifiedBy: c.Paulin - 2019-12-03; Temperature: -55°C ~ 125°C; Package: 2-SMD; Manufacturer #2: *; Note: *; Assembly Type: SMD; Part Number #2: *; Part Number #1: 0154004.DR; Supplier 1: Digi-Key; Supplier Part Number 1: F1227CT-ND; Cryo: UNKNOWN
footprint FUS_0154XXX.DR (FUSE BRD MNT 2SMD)
pins: 1, 2

## FUS_0154005.DR
designator F??, comment 0154005.DR  Voltage Rating: 125V  Current Rating: 5A
FUS - 5 A 125 VAC/VDC - 2-SMD; Manufacturer #1: Littelfuse Inc.; Value: 5A 125V AC/DC FAST; GRAMS Lib Spec: 2.8; Magnetic Material: UNKNOWN; Polarized: NO; Tolerance: *; Power Max: *; HelpURL: http://www.littelfuse.com/~/media/electronics/datasheets/fuses/littelfuse_fuse_154_154t_154l_154tl_datasheet.pdf.pdf; CreatedBy/Date: Arnaud Samson - 06/07/18; VerifiedBy: Jonathan Bouchard 2018-07-16; Temperature: -55°C ~ 125°C; Package: 2-SMD; Manufacturer #2: *; Note: *; Assembly Type: SMD; Part Number #2: *; Part Number #1: 0154005.DR; Supplier 1: Digi-Key; Supplier Part Number 1: F1228CT-ND; Cryo: UNKNOWN
footprint FUS_0154XXX.DR (FUSE BRD MNT 2SMD)
pins: 1, 2

## IND_PLT10HH101150PNL
designator L??, comment value 100R @ 10MHz  (hidden comment: PLT10HH101150PNL)
IND - 2 Line Common Mode Choke Surface Mount 100 Ohms @ 10MHz 15A DCR 2.3 mOhm - SMD (12.9mm L x 6.6mm W x 9.4mm H); Manufacturer #1: Murata Electronics North America; Voltage Rating: 300VDC; GRAMS Lib Spec: 2.8; Magnetic Material: Yes; Polarized: No; Cryo: UNKNOWN; Tolerance: *; Current Rating: 15A; Power Max: *; HelpURL: https://www.murata.com/en-eu/products/productdata/8796754935838/QFLB9101.pdf; CreatedBy/Date: Tommy Rossginol - 2019/04/09; VerifiedBy: Caroline Paulin - 10-04-2019; Temperature: -55°C ~ 125°C; Package: SMD (12.9mm L x 6.6mm W x 9.4mm H); Manufacturer #2: *; Assembly Type: SMD; Part Number #2: *; Part Number #1: PLT10HH101150PNL; Supplier 1: Digi-Key; Supplier Part Number 1: 490-12821-1-ND
footprint IND_PLT10HH101150PNL
pins: 1, 2, 3, 4

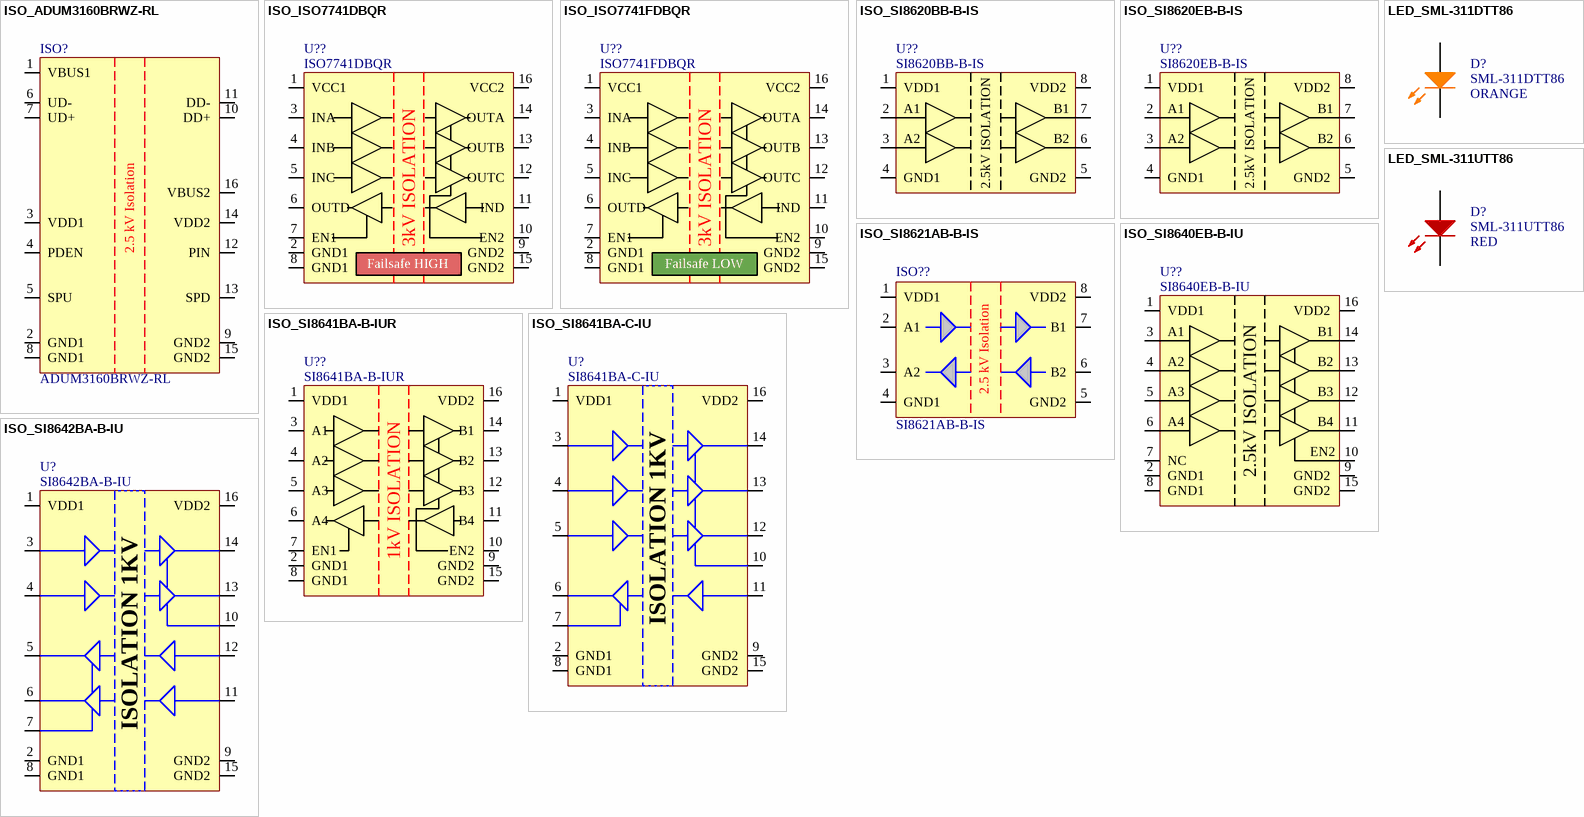
[diagram p3: symbols ISO_ADUM3160BRWZ-RL to LED_SML-311UTT86]

## ISO_ADUM3160BRWZ-RL
designator ISO?, comment ADUM3160BRWZ-RL
ISO - DGTL ISO 2.5KV 2CH USB - 16SOIC; Manufacturer #1: Analog Devices; Value: 2500Vrms voltage isolation; Voltage Rating: 3~5.5V; GRAMS Lib Spec: 2.8; Magnetic Material: UNKNOWN; Polarized: Yes; Tolerance: *; Current Rating: *; Power Max: *; HelpURL: https://www.analog.com/media/en/technical-documentation/data-sheets/ADuM3160.pdf; CreatedBy/Date: Tommy Rossignol 2018-11-16; VerifiedBy: Caroline Paulin - 13 février 2019; Temperature: -40°C ~ 105°C; Package: 16-SOIC; Manufacturer #2: *; Assembly Type: SMD; Part Number #2: *; Part Number #1: ADUM3160BRWZ-RL; Supplier 1: Digi-Key; Supplier Part Number 1: ADUM3160BRWZ-RLCT-ND; Cryo: UNKNOWN
footprint ISO_ADUM3160BRWZ-RL
pins: 1 VBUS1, 2 GND1, 3 VDD1, 4 PDEN, 5 SPU, 6 UD-, 7 UD+, 8 GND1, 9 GND2, 10 DD+, 11 DD-, 12 PIN, 13 SPD, 14 VDD2, 15 GND2, 16 VBUS2
text: 2.5 kV Isolation

## ISO_ISO7741DBQR
designator U??, comment ISO7741DBQR
ISO - Quad-Channel Digital Isolator 3/1 (Default High)- 16-SSOP; Manufacturer #1: Texas Instruments; Voltage Rating: 2.25-5.5V; GRAMS Lib Spec: 2.8c; Magnetic Material: Unknown; Polarized: Yes; Value: *; Tolerance: *; Current Rating: *; Power Max: *; HelpURL: http://www.ti.com/lit/ds/symlink/iso7741.pdf; CreatedBy/Date: Louis-Daniel Gaulin / 11-03-2020; VerifiedBy: C.Paulin - 20/04/2020; Temperature: -55°C ~ 125°C; Package: 16-SSOP; Manufacturer #2: *; Assembly Type: SMD; Part Number #2: *; Part Number #1: ISO7741DBQR; Supplier 1: Digi-Key; Supplier Part Number 1: 296-47660-1-ND; Cryo: UNKNOWN
footprint ISO_ISO7741DBQR (SOP, 16-Leads, Body 4,91x3,90mm, Pitch 0,64mm, IPC Medium Density)
pins: 1 VCC1, 2 GND1, 3 INA, 4 INB, 5 INC, 6 OUTD, 7 EN1, 8 GND1, 9 GND2, 10 EN2, 11 IND, 12 OUTC, 13 OUTB, 14 OUTA, 15 GND2, 16 VCC2
text: 3kV ISOLATION; Failsafe HIGH

## ISO_ISO7741FDBQR
designator U??, comment ISO7741FDBQR
ISO - Quad-Channel Digital Isolator 3/1 (Default Low)- 16-SSOP; Manufacturer #1: Texas Instruments; Voltage Rating: 2.25-5.5V; GRAMS Lib Spec: 2.8c; Magnetic Material: Unknown; Polarized: Yes; Value: 3/1; Tolerance: *; Current Rating: *; Power Max: *; HelpURL: http://www.ti.com/lit/ds/symlink/iso7741.pdf; CreatedBy/Date: Louis-Daniel Gaulin / 11-03-2020; VerifiedBy: c.Paulin - 20/04/2020; Temperature: -55°C ~ 125°C; Package: 16-SSOP; Manufacturer #2: *; Assembly Type: SMD; Part Number #2: *; Part Number #1: ISO7741FDBQR; Supplier 1: Digi-Key; Supplier Part Number 1: 296-48140-1-ND; Cryo: UNKNOWN
footprint ISO_ISO7741FDBQR (SOP, 16-Leads, Body 4,91x3,90mm, Pitch 0,64mm, IPC Medium Density)
pins: 1 VCC1, 2 GND1, 3 INA, 4 INB, 5 INC, 6 OUTD, 7 EN1, 8 GND1, 9 GND2, 10 EN2, 11 IND, 12 OUTC, 13 OUTB, 14 OUTA, 15 GND2, 16 VCC2
text: 3kV ISOLATION; Failsafe LOW

## ISO_SI8620BB-B-IS
designator U??, comment SI8620BB-B-IS
ISO - Dual-Channel Digital Isolator (default Low) - 8-SOIC; Manufacturer #1: Silicon Labs; Voltage Rating: 2.5-5.5V; GRAMS Lib Spec: 2.8; Magnetic Material: Unknown; Polarized: Yes; Value: *; Tolerance: *; Current Rating: *; Power Max: *; HelpURL: https://www.silabs.com/documents/public/data-sheets/si861x-2x-datasheet.pdf; CreatedBy/Date: Joel Lemay 2018-06-05; VerifiedBy: Caroline Paulin - 12 sept 2018; Temperature: -40°C ~ 125°C; Package: 8-SOIC; Manufacturer #2: *; Assembly Type: SMD; Part Number #2: *; Part Number #1: SI8620BB-B-IS; Supplier 1: Digi-Key; Supplier Part Number 1: 336-2567-ND; Cryo: UNKNOWN
footprint ISO_SI8620BB-B-IS
pins: 1 VDD1, 2 A1, 3 A2, 4 GND1, 5 GND2, 6 B2, 7 B1, 8 VDD2
text: 2.5kV ISOLATION

## ISO_SI8620EB-B-IS
designator U??, comment SI8620EB-B-IS
ISO - Dual-Channel Digital Isolator (default HI) - 8-SOIC; Manufacturer #1: Silicon Labs; Voltage Rating: 2.5-5.5V; GRAMS Lib Spec: 2.8; Magnetic Material: Unknown; Polarized: Yes; Value: *; Tolerance: *; Current Rating: *; Power Max: *; HelpURL: https://www.silabs.com/documents/public/data-sheets/si861x-2x-datasheet.pdf; CreatedBy/Date: Joel Lemay 2018-06-05; VerifiedBy: Caroline Paulin - 12 sept 2018; Temperature: -40°C ~ 125°C; Package: 8-SOIC; Manufacturer #2: *; Assembly Type: SMD; Part Number #2: *; Part Number #1: SI8620EB-B-IS; Supplier 1: Digi-Key; Supplier Part Number 1: SI8620EB-B-IS-ND; Cryo: UNKNOWN
footprint ISO_SI8620EB-B-IS
pins: 1 VDD1, 2 A1, 3 A2, 4 GND1, 5 GND2, 6 B2, 7 B1, 8 VDD2
text: 2.5kV ISOLATION

## ISO_SI8621AB-B-IS
designator ISO??, comment SI8621AB-B-IS
ISO - DGTL ISO 2.5KV 2CH GEN PURP  - 8SOIC; Manufacturer #1: Silicon Labs; Polarized: YES; Magnetic Material: UNKNOWN; Value: 2.5kV Isolation; GRAMS Lib Spec: 2.8; Voltage Rating: 2.5 V ~ 5.5 V; Current Rating: *; Manufacturer #2: *; Power Max: *; Part Number #1: SI8621AB-B-IS; Part Number #2: *; HelpURL: https://www.silabs.com/documents/public/data-sheets/Si86xx.pdf; Note: *; Supplier 1: Digi-Key; Supplier Part Number 1: SI8621AB-B-IS-ND; Assembly Type: SMD; Package: 8-SOIC; Temperature: -40°C ~ 125°C; CreatedBy/Date: Jonathan Bouchard 2018-07-16; Tolerance: *; VerifiedBy: Arnaud Samson 17-07-18; Cryo: UNKNOWN
footprint ISO_SI8621AB-B-IS (SOIC, 8-Leads, Body 4,90x3,90mm, Pitch 1,27mm, IPC Medium Density)
pins: 1 VDD1, 2 A1, 3 A2, 4 GND1, 5 GND2, 6 B2, 7 B1, 8 VDD2
text: 2.5 kV Isolation

## ISO_SI8640EB-B-IU
designator U??, comment SI8640EB-B-IU
ISO - Quad-Channel Digital Isolator (default HI) - 16-SSOP; Manufacturer #1: Silicon Labs; Voltage Rating: 2.5-5.5V; GRAMS Lib Spec: 2.8; Magnetic Material: Unknown; Polarized: Yes; Value: *; Tolerance: *; Current Rating: *; Power Max: *; HelpURL: https://www.silabs.com/documents/public/data-sheets/si864x-datasheet.pdf; CreatedBy/Date: Joel Lemay 2018-06-05; VerifiedBy: Caroline Paulin - 12 sept 2018; Temperature: -40°C ~ 125°C; Package: 16-SSOP; Manufacturer #2: *; Assembly Type: SMD; Part Number #2: *; Part Number #1: SI8640EB-B-IU; Supplier 1: Digi-Key; Supplier Part Number 1: 336-4288-ND; Cryo: UNKNOWN
footprint ISO_SI8640EB-B-IU
pins: 1 VDD1, 2 GND1, 3 A1, 4 A2, 5 A3, 6 A4, 7 NC, 8 GND1, 9 GND2, 10 EN2, 11 B4, 12 B3, 13 B2, 14 B1, 15 GND2, 16 VDD2
text: 2.5kV ISOLATION

## ISO_SI8641BA-B-IUR
designator U??, comment SI8641BA-B-IUR
ISO - Quad-Channel Digital Isolator - 16-SSOP; Manufacturer #1: Silicon Labs; Voltage Rating: 2.375-5.5V; GRAMS Lib Spec: 2.8c; Magnetic Material: Unknown; Polarized: Yes; Value: *; Tolerance: *; Current Rating: *; Power Max: *; HelpURL: https://www.silabs.com/documents/public/data-sheets/si864x-datasheet.pdf; CreatedBy/Date: Louis-Daniel Gaulin / 25-02-2020; VerifiedBy: C.Paulin - 9/03/2020; Temperature: -40°C ~ 125°C; Package: 16-SSOP; Manufacturer #2: *; Assembly Type: SMD; Part Number #2: *; Part Number #1: SI8641BA-B-IUR; Supplier 1: Digi-Key; Supplier Part Number 1: 336-4333-1-ND; Cryo: UNKNOWN
footprint ISO_SI8641BA-B-IUR (SOP, 16-Leads, Body 4,89x3,90mm, Pitch 0,64mm, IPC Medium Density)
pins: 1 VDD1, 2 GND1, 3 A1, 4 A2, 5 A3, 6 A4, 7 EN1, 8 GND1, 9 GND2, 10 EN2, 11 B4, 12 B3, 13 B2, 14 B1, 15 GND2, 16 VDD2
text: 1kV ISOLATION

## ISO_SI8641BA-C-IU
designator U?, comment SI8641BA-C-IU
ISO - DIGITAL ISOLATOR 1KV 4CH 3:1 GEN PURP -  SOP-16; Voltage: 2.5 V ~ 5.5 V; Mfg: Silicon Labs; Current: *; Power: *; Mfg Part Number: SI8641BA-C-IU; HelpURL: http://www.silabs.com/Support%20Documents/TechnicalDocs/si864x-datasheet.pdf; CreatedBy: Jonathan Bouchard; Temperature: -40°C ~ 125°C; Value: *; Precision: *; Package: SOP-16; Supplier 1: Digikey; Supplier Part Number 1: SI8641BA-C-IU-ND
footprint ISO_SI8642BA-B-IU
pins: 1 VDD1 (power), 2 GND1, 3 A1, 4 A2, 5 A3, 6 A4, 7 EN1, 8 GND1, 9 GND2, 10 EN2, 11 B4, 12 B3, 13 B2, 14 B1, 15 GND2, 16 VDD2 (power)
text: ISOLATION 1KV

## ISO_SI8642BA-B-IU
designator U?, comment SI8642BA-B-IU
ISO - DIGITAL ISOLATOR 1KV 4CH 2:2 GEN PURP -  SOP-16; Voltage: 2.5 V ~ 5.5 V; Mfg: Silicon Labs; Current: *; Power: *; Mfg Part Number: SI8642BA-B-IU; HelpURL: http://www.silabs.com/Support%20Documents/TechnicalDocs/si864x-datasheet.pdf; CreatedBy: Jonathan Bouchard; Temperature: -40°C ~ 125°C; Value: *; Precision: *; Package: SOP-16; Supplier 1: Digikey; Supplier Part Number 1: 336-2091-5-ND
footprint ISO_SI8642BA-B-IU
pins: 1 VDD1 (power), 2 GND1, 3 A1, 4 A2, 5 A3, 6 A4, 7 EN1, 8 GND1, 9 GND2, 10 EN2, 11 B4, 12 B3, 13 B2, 14 B1, 15 GND2, 16 VDD2 (power)
text: ISOLATION 1KV